# Altium schematic symbol library UJ32-C-H-G-DSMT-3-P24-TR.SchLib: 1 symbol
Pins are listed as number, name and electrical type; pins without a type are passive.

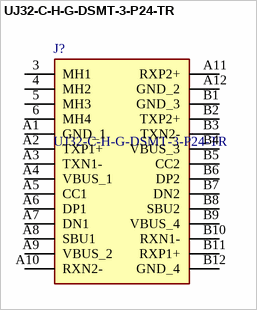
[diagram p0: symbol UJ32-C-H-G-DSMT-3-P24-TR]

## UJ32-C-H-G-DSMT-3-P24-TR
designator J?
UJ32-C-H-G-DSMT-3-P24-TR - Type C, USB 3.2 Gen 1, 5 Gbps, 48 Vdc, 5 A, Horizontal, Hybrid Mount Mounting Style, Hybrid MountContact Pin Type, Gold Plated 3 in, 24 Pins, USB Receptacle; Manufacturer_Name: Same Sky; Geometry.Height: 3.36mm; Mouser Part Number: 179-UJ32CHGDST3P24TR; Mouser Price/Stock: https://www.mouser.co.uk/ProductDetail/Same-Sky/UJ32-C-H-G-DSMT-3-P24-TR?qs=IKkN%2F947nfBrW9%252BSQhjOYA%3D%3D; Manufacturer_Part_Number: UJ32-C-H-G-DSMT-3-P24-TR; Datasheet Link: https://www.sameskydevices.com/product/resource/UJ32-C-H-G-DSMT-3-P24-TR.pdf
footprint UJ32CHGDSMT3P24TR
pins: 3 MH1, 4 MH2, 5 MH3, 6 MH4, A1 GND_1, A2 TXP1+, A3 TXN1-, A4 VBUS_1, A5 CC1, A6 DP1, A7 DN1, A8 SBU1, A9 VBUS_2, A10 RXN2-, A11 RXP2+, A12 GND_2, B1 GND_3, B2 TXP2+, B3 TXN2-, B4 VBUS_3, B5 CC2, B6 DP2, B7 DN2, B8 SBU2, B9 VBUS_4, B10 RXN1-, B11 RXP1+, B12 GND_4